# Altium footprint library cui-microphones.PcbLib: 1 footprints
Each footprint in its own frame and in the unit in brackets; x right, y up, seen from the top. Pads: shape width x height; smd on the part's side, far side on the other; paste and mask are expansions set on the pad; w line width, h text height; cw(c..) or ccw(c..) is an arc to the next point about the centre after c.
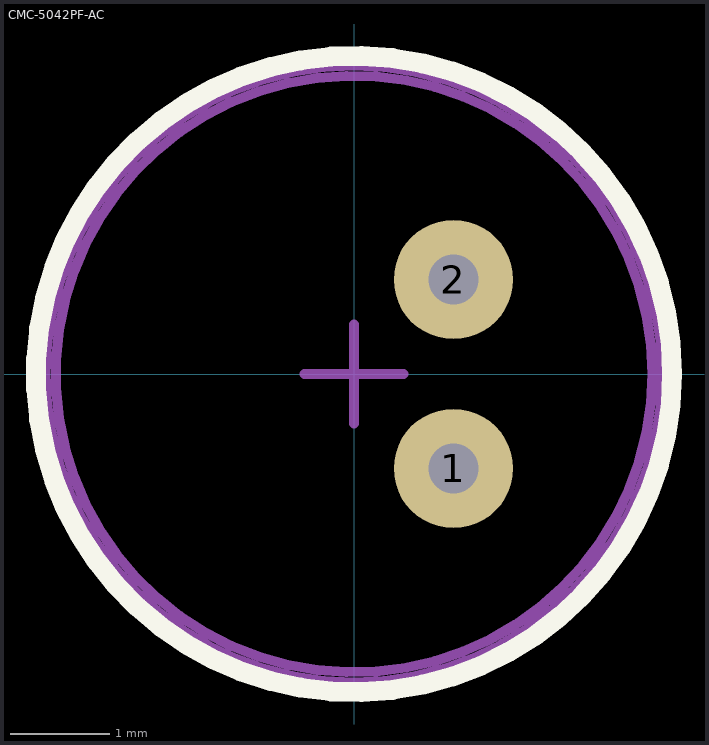
[diagram p0: the footprint, top view; thin cyan lines are the x and y axes]

## CMC-5042PF-AC [mm] "Electret Condenser Microphone"
height 5
pads (2):
  round 1.2 hole 0.5: 1(1,-0.95) 2(1,0.95)
Top Overlay:
  circle w0.2: c0,0 r3.2
Mechanical 13:
  circle w0.1: c0,0 r3
  lines w0.1: -0.5,0 0.5,0 ; 0,-0.5 0,0.5
Mechanical 15:
  circle w0.1: c0,0 r3.1
  text ".Designator" at -1.6,-1.5 h0.5
3D body: height 5.2, standoff 5, extent -2.877,-2.894 2.9,2.894
3D body: height 0, standoff -2.8, extent 0.802,-1.149 1.2,-0.75
3D body: height 0, standoff -2.8, extent 0.802,0.751 1.2,1.15
3D body: height 5, standoff 0, extent -2.976,-2.994 3,2.994